# Altium schematic symbol library Sch_Smiths_Connectors.SchLib: 2 symbols
Pins are listed as number, name and electrical type; pins without a type are passive.

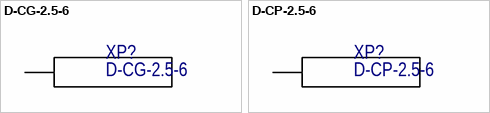
[diagram p0: symbols D-CG-2.5-6 to D-CP-2.5-6]

## D-CG-2.5-6
designator XP?
Manufacturer: Smiths Connectors; Part Number: D-CG-2.5-6
pins: ?1

## D-CP-2.5-6
designator XP?
Manufacturer: Smiths Connectors; Part Number: D-CP-2.5-6
pins: ?1